# EAGLE library part DRV8838-POLOLU (library SW_Motor)
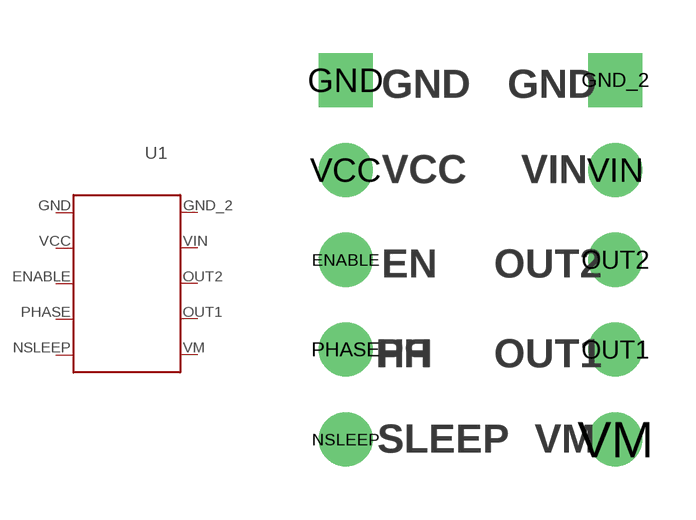
[diagram p0: symbol with the pads of DRV8838-POLOLU; footprint DRV8838-POLOLU]

Designator prefix U1

## DRV8838-POLOLU (CATEGORY: Motor)  [DRV8838-POLOLU]
ENABLE  ENABLE
GND  GND
GND_2  P$10
NSLEEP  NSLEEP
OUT1  OUT1
OUT2  OUT2
PHASE  PHASE
VCC  VCC
VIN  VIM
VM  VM

## Footprint DRV8838-POLOLU (pad centres in mm)
drill 1.02: ENABLE -3.81,-5.08; NSLEEP -3.81,-10.16; OUT1 3.81,-7.62; OUT2 3.81,-5.08; PHASE -3.81,-7.62; VCC -3.81,-2.54; VIN 3.81,-2.54; VM 3.81,-10.16
drill 1.02 square: GND -3.81,0; GND_2 3.81,0